# EAGLE library part SN75176A (library reprap)
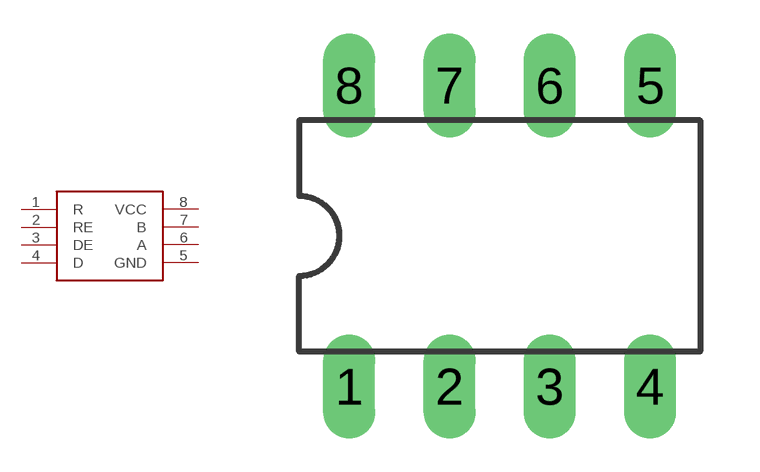
[diagram p7: symbol with the pads of DIL08; footprint DIL08]

Designator prefix -

## SN75176A  [DIL08]
1  R
2  RE
3  DE
4  D
5  GND
6  A
7  B
8  VCC

## Footprint DIL08 (pad centres in mm)
Dual In Line Package
drill 0.813 long: 1 -3.81,-3.81; 2 -1.27,-3.81; 3 1.27,-3.81; 4 3.81,-3.81; 5 3.81,3.81; 6 1.27,3.81; 7 -1.27,3.81; 8 -3.81,3.81